# EAGLE library part INA154U (library texas-instruments-jqi)
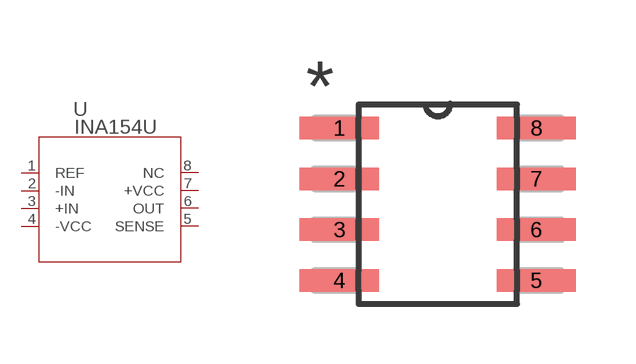
[diagram p0: symbol with the pads of D8; footprint D8]

Designator prefix U

## INA154U (COPYRIGHT: Copyright C 2015 Accelerated Designs. All rights reserved; FAMILY: Special Purpose Amplifier; MANUFACTURER_NAME: Texas Instruments; MANUFACTURER_PART_NUMBER: INA154UG4; RSPARTNUMBER: 6605314; SECTION: Amplifiers and Comparators; VENDOR: Texas Instruments)  [D8]
1  REF  pas
2  -IN  pas
3  +IN  pas
4  -VCC  pas
5  SENSE  pas
6  OUT  pas
7  +VCC  pas
8  NC  pas

## Footprint D8 (pad centres in mm)
smd 1.981 x 0.559: 1 -2.464,1.905; 2 -2.464,0.635; 3 -2.464,-0.635; 4 -2.464,-1.905; 5 2.464,-1.905; 6 2.464,-0.635; 7 2.464,0.635; 8 2.464,1.905